# Altium schematic symbol library kAltiumLib.SchLib: 1 symbol
Pins are listed as number, name and electrical type; pins without a type are passive.

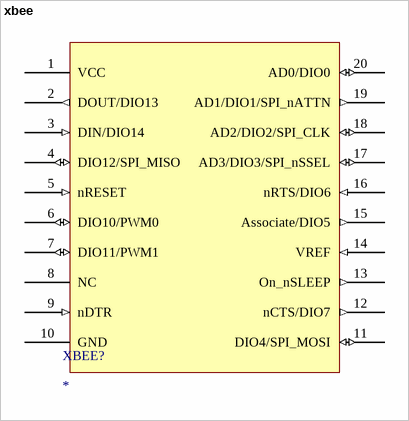
[diagram p0: symbol xbee]

## xbee
designator XBEE?
DIGI XBEE S3B
footprint XBee900
pins: 1 VCC (power), 2 DOUT/DIO13 (out), 3 DIN/DIO14 (in), 4 DIO12/SPI_MISO (io), 5 nRESET (in), 6 DIO10/PWM0 (io), 7 DIO11/PWM1 (io), 8 NC, 9 nDTR (in), 10 GND (power), 11 DIO4/SPI_MOSI (io), 12 nCTS/DIO7 (out), 13 On_nSLEEP (out), 14 VREF (in), 15 Associate/DIO5 (out), 16 nRTS/DIO6 (in), 17 AD3/DIO3/SPI_nSSEL (io), 18 AD2/DIO2/SPI_CLK (io), 19 AD1/DIO1/SPI_nATTN (out), 20 AD0/DIO0 (io)